# Altium footprint library Flex-DSG8-PWSON-N8.PcbLib: 1 footprints
Each footprint in its own frame and in the unit in brackets; x right, y up, seen from the top. Pads: shape width x height; smd on the part's side, far side on the other; paste and mask are expansions set on the pad; w line width, h text height; cw(c..) or ccw(c..) is an arc to the next point about the centre after c.
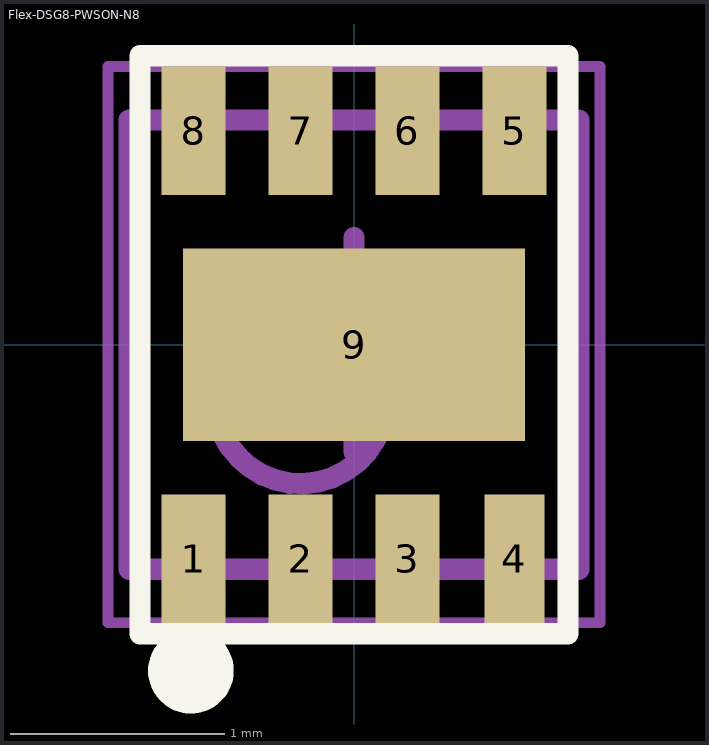
[diagram p0: the footprint, top view; thin cyan lines are the x and y axes]

## Flex-DSG8-PWSON-N8 [mm]
pads (9):
  rect 0.3x0.6 smd paste-999 mask-999: 1(-0.75,-1) 2(-0.25,-1) 3(0.25,-1) 5(0.75,1) 6(0.25,1) 7(-0.25,1) 8(-0.75,1)
  rect 0.28x0.6 smd paste-999 mask-999: 4(0.75,-1)
  rect 1.6x0.9 smd paste-999 mask-999: 9(0,0)
Top Overlay:
  circle w0.2: c-0.762,-1.524 r0.1
  lines w0.1: -1,-1.35 1,-1.35 1,1.35 -1,1.35 -1,-1.35
Top Paste:
  region: -0.629,1.2 -0.879,1.2 -0.879,0.7 -0.629,0.7
  region: -0.125,1.2 -0.375,1.2 -0.375,0.7 -0.125,0.7
  region: 0.375,1.2 0.125,1.2 0.125,0.7 0.375,0.7
  region: 0.875,1.2 0.625,1.2 0.625,0.7 0.875,0.7
  region: -0.875,-1.2 -0.625,-1.2 -0.625,-0.7 -0.875,-0.7
  region: -0.375,-1.2 -0.125,-1.2 -0.125,-0.7 -0.375,-0.7
  region: 0.125,-1.2 0.375,-1.2 0.375,-0.7 0.125,-0.7
  region: 0.625,-1.2 0.875,-1.2 0.875,-0.7 0.625,-0.7
  region: -0.625,-0.35 0.625,-0.35 0.625,0.35 -0.625,0.35
Top Solder:
  region: 0.8,-1.265 -0.8,-1.277 -0.911,-1.231 -0.957,-1.12 -0.945,-1.12 -0.944,1.1 -0.945,1.1 -0.957,1.12 -0.911,1.231 -0.8,1.277 -0.8,1.265 0.801,1.276 0.8,1.277 0.8,1.265 0.801,1.276 0.911,1.231 0.957,1.12 0.945,1.12 0.957,-1.12 0.911,-1.231 0.8,-1.277
Mechanical 13:
  circle w0.1: c-0.25,-0.25 r0.4
  lines w0.1: -1.05,-1.05 -1.05,1.05 1.05,1.05 1.05,-1.05 -1.05,-1.05
Mechanical 15:
  lines w0.05: -1.15,-1.3 -1.15,1.3 1.15,1.3 1.15,-1.3 -1.15,-1.3
  lines w0.1: -0.5,0 0.5,0 ; 0,-0.5 0,0.5
3D body: height 0.8, standoff 0, extent -1.05,-1.05 1.05,1.05